# Altium footprint library Wurth_Elektronik_Passive_rev16a.PCBLIB: 810 footprints (part 50 of 51)
Each footprint in its own frame and in the unit in brackets; x right, y up, seen from the top. Pads: shape width x height; smd on the part's side, far side on the other; paste and mask are expansions set on the pad; w line width, h text height; cw(c..) or ccw(c..) is an arc to the next point about the centre after c.
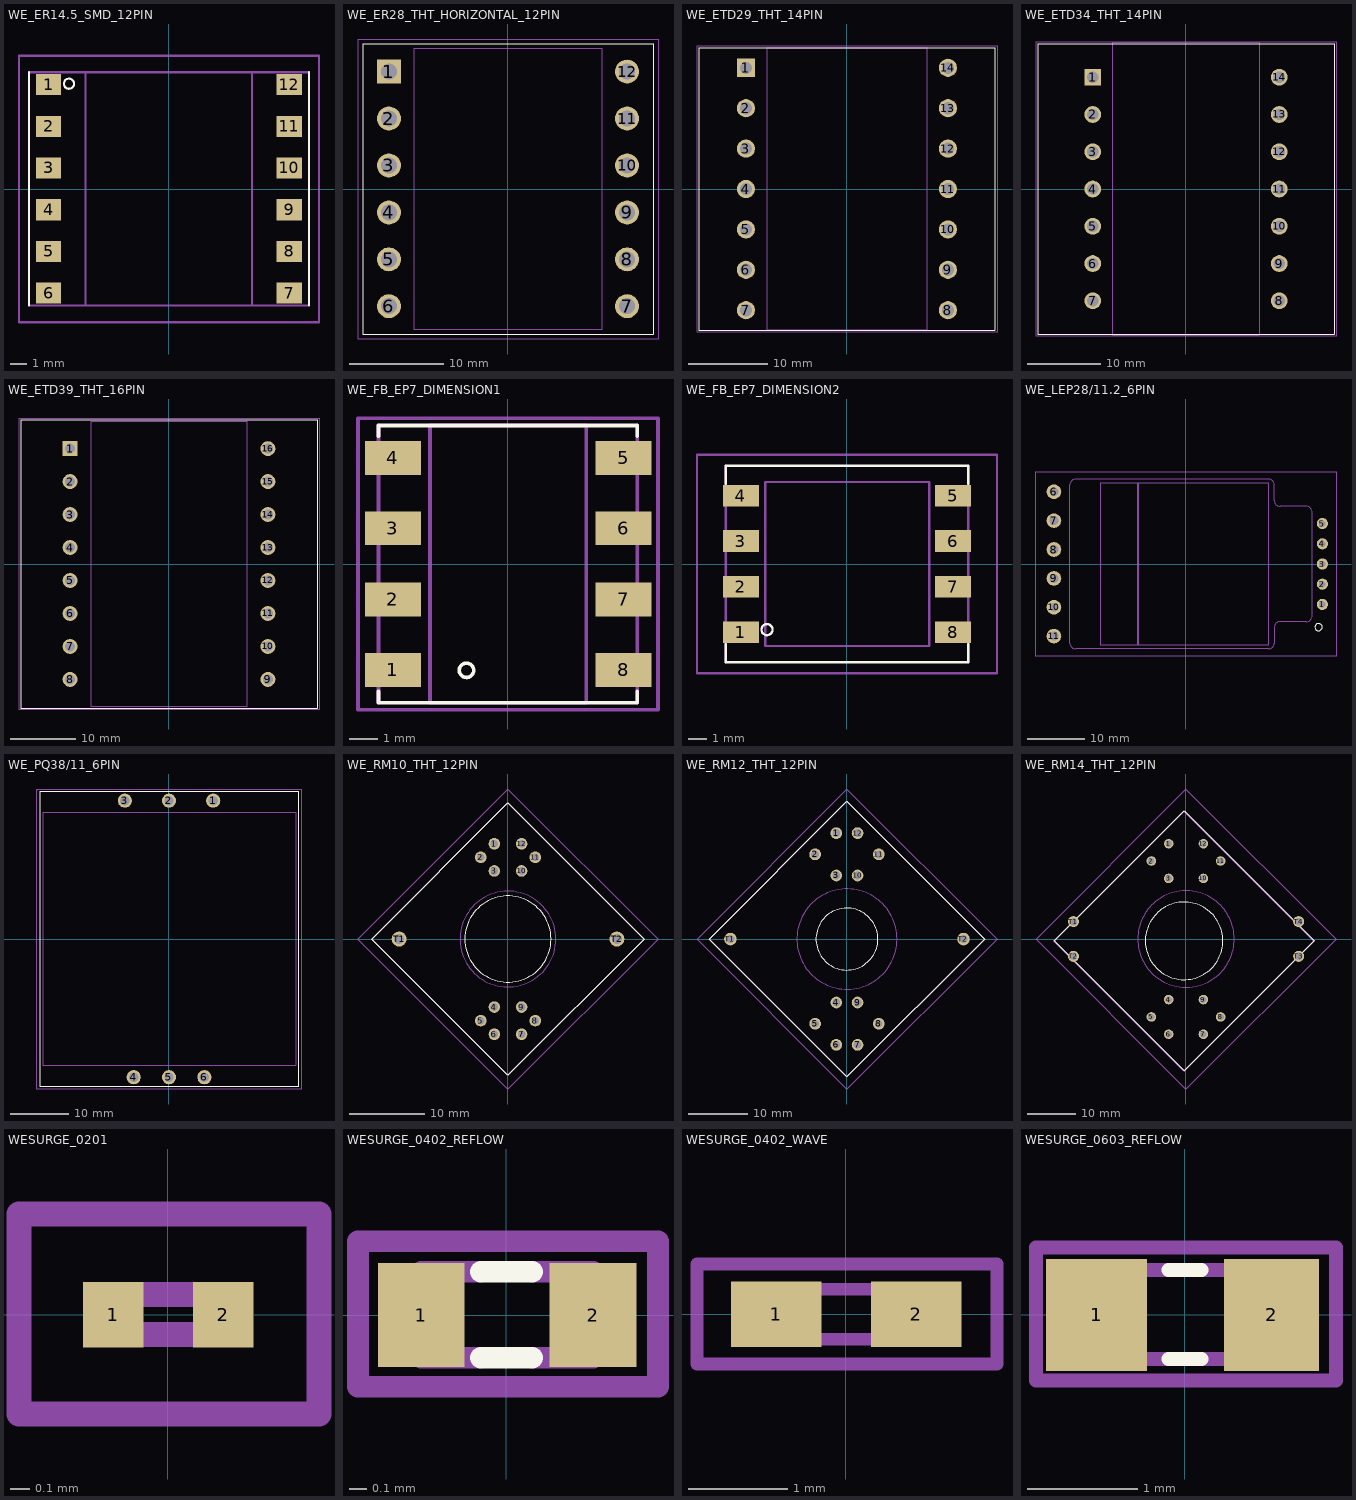
[diagram p49: the footprints below, top view; thin cyan lines are the x and y axes]

## WE_ER14.5_SMD_12PIN [mil]
pads (12):
  rect 60x50 smd: 1(-284.45,247) 2(-284.45,148) 3(-284.45,50) 4(-284.45,-49.21) 5(-284.45,-147.64) 6(-284.45,-246.06) 7(285,-246.06) 8(285,-147.64) 9(285,-49.21) 10(285,50) 11(285,148) 12(285,247)
Top Overlay:
  circle w5: c-236.22,249 r12
  lines w5: -330.71,-275.59 -330.71,276 ; 331,-275.59 331,276
Mechanical 2:
  text ">NAME" at -314.96,315 h77.5
Mechanical 4:
  text ">VALUE" at -314.96,-374.02 h77.5
Mechanical 10:
  lines w5: -196.85,-275.59 197,-275.59 197,276 -196.85,276 -196.85,-275.59
Mechanical 16:
  lines w5: -330.71,-275.59 331,-275.59 ; -330.71,276 331,276
Mechanical 27:
  lines w5: -354.33,-314.96 355,-314.96 355,315 -354.33,315 -354.33,-314.96

## WE_ER28_THT_HORIZONTAL_12PIN [mil]
pads (12):
  rect 100.5x100.5 hole 67: 1(-500,493)
  round 100.5 hole 67: 2(-500,296) 3(-500,99) 4(-500,-98.43) 5(-500,-295.28) 6(-500,-492.13) 7(500,-492.13) 8(500,-295.28) 9(500,-98.43) 10(500,99) 11(500,296) 12(500,493)
Top Overlay:
  lines w5: -610.24,-610.24 611,-610.24 611,611 -610.24,611 -610.24,-610.24
Mechanical 2:
  text ">NAME" at -590.55,670 h77.5
Mechanical 4:
  text ">VALUE" at -590.55,-708.66 h77.5
Mechanical 10:
  lines w5: -393.7,-590.55 394,-590.55 394,591 -393.7,591 -393.7,-590.55
Mechanical 27:
  lines w5: -629.92,-629.92 630,-629.92 630,630 -629.92,630 -629.92,-629.92

## WE_ETD29_THT_14PIN [mil]
pads (14):
  rect 90x90 hole 60: 1(-500,600)
  round 90 hole 60: 2(-500,400) 3(-500,200) 4(-500,0) 5(-500,-200) 6(-500,-400) 7(-500,-600) 8(500,-600) 9(500,-400) 10(500,-200) 11(500,0) 12(500,200) 13(500,400) 14(500,600)
Top Overlay:
  lines w5: -732.48,-700 733,-700 733,700 -732.48,700 -732.48,-700
Mechanical 2:
  text ">NAME" at -728.35,827 h77.5
Mechanical 4:
  text ">VALUE" at -688.98,-885.83 h77.5
Mechanical 10:
  lines w5: -393.7,-700 394,-700 394,700 -393.7,700 -393.7,-700
Mechanical 27:
  lines w5: -742.32,-709.84 743,-709.84 743,710 -742.32,710 -742.32,-709.84

## WE_ETD34_THT_14PIN [mil]
pads (14):
  rect 90x90 hole 60: 1(-500,600)
  round 90 hole 60: 2(-500,400) 3(-500,200) 4(-500,0) 5(-500,-200) 6(-500,-400) 7(-500,-600) 8(500,-600) 9(500,-400) 10(500,-200) 11(500,0) 12(500,200) 13(500,400) 14(500,600)
Top Overlay:
  lines w5: -795.08,-779.92 -795.08,780 796,780 796,-779.92 -795.08,-779.92
Mechanical 2:
  text ">NAME" at -846.46,867 h77.5
Mechanical 4:
  text ">VALUE" at -807.09,-925.2 h77.5
Mechanical 10:
  lines w5: -393.7,-787.4 394,-787.4 394,788 -393.7,788 -393.7,-787.4
Mechanical 27:
  lines w5: -804.92,-789.76 805,-789.76 805,790 -804.92,790 -804.92,-789.76

## WE_ETD39_THT_16PIN [mil]
pads (16):
  rect 90x90 hole 60: 1(-600,700)
  round 90 hole 60: 2(-600,500) 3(-600,300) 4(-600,100) 5(-600,-100) 6(-600,-300) 7(-600,-500) 8(-600,-700) 9(600,-700) 10(600,-500) 11(600,-300) 12(600,-100) 13(600,100) 14(600,300) 15(600,500) 16(600,700)
Top Overlay:
  lines w5: -900,-875 -900,875 900,875 900,-875 -900,-875
Mechanical 2:
  text ">NAME" at -905.51,985 h77.5
Mechanical 4:
  text ">VALUE" at -905.51,-1062.99 h77.5
Mechanical 10:
  lines w5: -472.44,-866.14 473,-866.14 473,867 -472.44,867 -472.44,-866.14
Mechanical 27:
  lines w5: -909.84,-884.84 910,-884.84 910,885 -909.84,885 -909.84,-884.84

## WE_FB_EP7_DIMENSION1 [mil]
pads (8):
  rect 78x47 smd: 1(-160.04,-147.05) 2(-160.04,-49.02) 3(-160.04,50) 4(-160.04,148) 5(161,148) 6(161,50) 7(161,-49.02) 8(161,-147.05)
Top Overlay:
  circle w5: c-57.48,-147.64 r10
  lines w5: -179.92,-177.17 -179.92,-192.52 180,-192.52 180,-177.17 ; -179.92,178 -179.92,193 180,193 180,178
Mechanical 2:
  text ">NAME" at -255.91,237 h77.5
Mechanical 4:
  text ">VALUE" at -255.91,-295.28 h77.5
Mechanical 10:
  lines w5: -108.27,-192.52 109,-192.52 109,193 -108.27,193 -108.27,-192.52
Mechanical 16:
  lines w5: -179.92,-192.52 -179.92,193 ; 180,-192.52 180,193
Mechanical 27:
  lines w5: -208.46,-202.36 209,-202.36 209,203 -208.46,203 -208.46,-202.36

## WE_FB_EP7_DIMENSION2 [mil]
pads (8):
  rect 78x47 smd: 1(-229.53,-147.64) 2(-229.53,-49.21) 3(-229.53,50) 4(-229.53,148) 5(230,148) 6(230,50) 7(230,-49.21) 8(230,-147.64)
Top Overlay:
  circle w5: c-173.23,-141.73 r12
  lines w5: -262.8,-173.23 -262.8,-212.6 263,-212.6 263,-173.23 ; -262.8,174 -262.8,213 263,213 263,174
Mechanical 2:
  text ">NAME" at -255.91,237 h77.5
Mechanical 4:
  text ">VALUE" at -255.91,-295.28 h77.5
Mechanical 10:
  lines w5: -177.17,-177.17 178,-177.17 178,178 -177.17,178 -177.17,-177.17
Mechanical 16:
  lines w5: -262.8,-212.6 -262.8,213 ; 263,-212.6 263,213
Mechanical 27:
  lines w5: -324.8,-236.22 325,-236.22 325,237 -324.8,237 -324.8,-236.22

## WE_LEP28/11.2_6PIN [mil]
pads (11):
  round 76 hole 44: 1(931,-275.59) 2(931,-137.8) 3(931,0) 4(931,138) 5(931,276)
  round 100 hole 60: 6(-901.18,493) 7(-901.18,296) 8(-901.18,99) 9(-901.18,-98.43) 10(-901.18,-295.28) 11(-901.18,-492.13)
Top Overlay:
  circle w0: c905,-431.1 r25
Mechanical 2:
  text ">NAME" at -751.77,658 h77.5
Mechanical 4:
  text ">VALUE" at -751.77,-710.63 h77.5
Mechanical 11:
  lines w0: -792.32,-539.37 ccw(c-752.95,-539.37) -752.95,-578.74 564,-578.74 ccw(c563.82,-539.56) 603,-539.37 603,-433.07 cw(c642.18,-432.89) 642,-393.7 821,-393.7 ccw(c821.32,-354.02) 861,-354.33 861,355 ccw(c821.5,354.5) 821,394 642,394 cw(c642.5,433.5) 603,434 603,540 ccw(c564,540) 564,579 -752.95,579 ccw(c-753.14,539.82) -792.32,540 -792.32,-539.37
Mechanical 16:
  lines w0: -326.38,-551.18 -326.38,552
  lines w5: -326.38,-551.18 566,-551.18 566,552 -326.38,552 ; -586.22,-551.18 -330.31,-551.18 -330.31,552 -586.22,552 -586.22,-551.18
Mechanical 27:
  lines w5: -1023.62,-629.92 1024,-629.92 1024,630 -1023.62,630 -1023.62,-629.92

## WE_PQ38/11_6PIN [mil]
pads (6):
  round 94.5 hole 63: 1(296,926) 2(0,926) 3(-295.28,926) 4(-236.22,-925.2) 5(0,-925.2) 6(237,-925.2)
Top Overlay:
  lines w5: -866.14,-984.25 -866.14,985 867,985 867,-984.25 -866.14,-984.25
Mechanical 2:
  text ">NAME" at -978.74,-760.63 h77.5
Mechanical 4:
  text ">VALUE" at 1029,-810.63 h77.5
Mechanical 11:
  lines w5: -846.46,-846.46 -846.46,847 847,847 847,-846.46 -846.46,-846.46
Mechanical 27:
  lines w5: -885.83,-1003.94 886,-1003.94 886,1004 -885.83,1004 -885.83,-1003.94

## WE_RM10_THT_12PIN [mil]
pads (14):
  round 60 hole 40: 1(-70.67,495) 2(-141.34,425) 3(-70.67,354) 4(-70.67,-353.54) 5(-141.34,-424.21) 6(-70.67,-494.88) 7(71,-494.88) 8(142,-424.21) 9(71,-353.54) 10(71,354) 11(142,425) 12(71,495)
  round 78 hole 52: T1(-565.55,0) T2(566,0)
Top Overlay:
  circle w5: c0,0 r224
  lines w5: -707.11,0 0,-707.11 708,0 0,708 -707.11,0
Mechanical 2:
  text ">NAME" at 70,762 h77.5
Mechanical 4:
  text ">VALUE" at -780.88,-88.81 h77.5
Mechanical 10:
  circle w5: c0,0 r249
Mechanical 16:
  lines w5: -707.11,0 0,-707.11 708,0 0,708 -707.11,0
Mechanical 27:
  lines w5: -779.49,0 0,-779.49 780,0 0,780 -779.49,0

## WE_RM12_THT_12PIN [mil]
pads (14):
  round 78 hole 52: 1(-70.87,708) 2(-212.6,566) 3(-70.87,425) 4(-70.87,-424.21) 5(-212.6,-565.55) 6(-70.87,-707.09) 7(71,-707.09) 8(213,-565.55) 9(71,-424.21) 10(71,425) 11(213,566) 12(71,708)
  round 84 hole 56: T1(-778.94,0) T2(779,0)
Top Overlay:
  circle w5: c0,0 r207
  lines w5: -919.24,0 0,-919.24 920,0 0,920 -919.24,0
Mechanical 2:
  text ">NAME" at 103,957 h77.5
Mechanical 4:
  text ">VALUE" at -993.01,-138.81 h77.5
Mechanical 10:
  circle w5: c0,0 r335
Mechanical 16:
  lines w5: -919.24,0 0,-919.24 920,0 0,920 -919.24,0
Mechanical 27:
  lines w5: -1002.2,0 0,-1002.2 1003,0 0,1003 -1002.2,0

## WE_RM14_THT_12PIN [mil]
pads (16):
  round 78 hole 52: 1(-141.34,778) 2(-282.87,637) 3(-141.34,495) 4(-141.34,-494.88) 5(-282.87,-636.42) 6(-141.34,-777.76) 7(142,-777.76) 8(283,-636.42) 9(142,-494.88) 10(142,495) 11(283,637) 12(142,778)
  round 90 hole 60: T1(-919.29,142) T2(-919.29,-141.34) T3(920,-141.34) T4(920,142)
Top Overlay:
  circle w5: c-15.03,-15.03 r317
  lines w5: -1075.69,-15.03 -15.03,1046 1046,-15.03 -15.03,-1075.69 -1075.69,-15.03
Mechanical 2:
  text ">NAME" at 37,1206 h77.5
Mechanical 4:
  text ">VALUE" at -1273.07,-101.06 h77.5
Mechanical 10:
  circle w5: c0,0 r394
Mechanical 16:
  lines w5: -1078.34,-17.68 -17.68,-1078.34 1043,-17.68 -17.68,1043 -1078.34,-17.68
Mechanical 27:
  lines w5: -1224.91,0 0,-1224.91 1225,0 0,1225 -1224.91,0

## WESURGE_0201 [mil]
pads (2):
  rect 12x13 smd: 1(-10.83,0) 2(11,0)
Mechanical 2:
  text ">NAME" at -118.11,40 h77.5
Mechanical 4:
  text ">VALUE" at -118.11,-98.43 h77.5
Mechanical 16:
  lines w5: -9.84,-3.94 -9.84,4 10,4 10,-3.94 -9.84,-3.94
Mechanical 27:
  lines w5: -29.53,-19.68 30,-19.68 30,20 -29.53,20 -29.53,-19.68

## WESURGE_0402_REFLOW [mil]
pads (2):
  rect 20x24 smd: 1(-19.68,0) 2(20,0)
Top Overlay:
  lines w5: -5.91,-9.84 6,-9.84 ; -5.91,10 6,10
Mechanical 2:
  text ">NAME" at -39.37,20 h15.5
Mechanical 4:
  text ">VALUE" at -39.37,-31.5 h15.5
Mechanical 16:
  lines w5: -5.91,-9.84 -19.68,-9.84 -19.68,10 -5.91,10 ; 6,-9.84 20,-9.84 20,10 6,10
Mechanical 27:
  lines w5: -34.25,-16.54 -34.25,17 35,17 35,-16.54 -34.25,-16.54

## WESURGE_0402_WAVE [mil]
pads (2):
  rect 36x26 smd: 1(-27.56,0) 2(28,0)
Mechanical 2:
  text ">NAME" at -64.96,-37.4 h15.5
Mechanical 4:
  text ">VALUE" at -64.96,28 h15.5
Mechanical 16:
  lines w5: -19.68,-9.84 20,-9.84 20,10 -19.68,10 -19.68,-9.84
Mechanical 27:
  lines w5: -59.06,-19.68 60,-19.68 60,20 -59.06,20 -59.06,-19.68

## WESURGE_0603_REFLOW [mil]
pads (2):
  rect 36x40 smd: 1(-31.5,0)
  rect 34x40 smd: 2(31,0)
Top Overlay:
  lines w5: -5.91,-15.75 6,-15.75 ; -5.91,16 6,16
Mechanical 2:
  text ">NAME" at -59.06,32 h15.5
Mechanical 4:
  text ">VALUE" at -59.06,-43.31 h15.5
Mechanical 16:
  lines w5: -5.91,-15.75 -31.5,-15.75 -31.5,16 -5.91,16 ; 6,-15.75 32,-15.75 32,16 6,16
Mechanical 27:
  lines w5: -53.15,-23.43 54,-23.43 54,24 -53.15,24 -53.15,-23.43